# Altium schematic symbol library AluminumCapacitors (SVPK).SchLib: 1 symbol
Pins are listed as number, name and electrical type; pins without a type are passive.

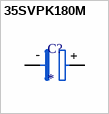
[diagram p0: symbol 35SVPK180M]

## 35SVPK180M
designator C?
180uF, 35V, ±20 %; Tolerance: ±20 %; Value: 180uF; Voltage: 35V; Temperature range: -55 to +125 °C
footprint SVPK, case E12
pins: 1 +, 2 +
text: -